# Altium footprint library My_Library.PcbLib: 118 footprints (part 2 of 8)
Each footprint in its own frame and in the unit in brackets; x right, y up, seen from the top. Pads: shape width x height; smd on the part's side, far side on the other; paste and mask are expansions set on the pad; w line width, h text height; cw(c..) or ccw(c..) is an arc to the next point about the centre after c.
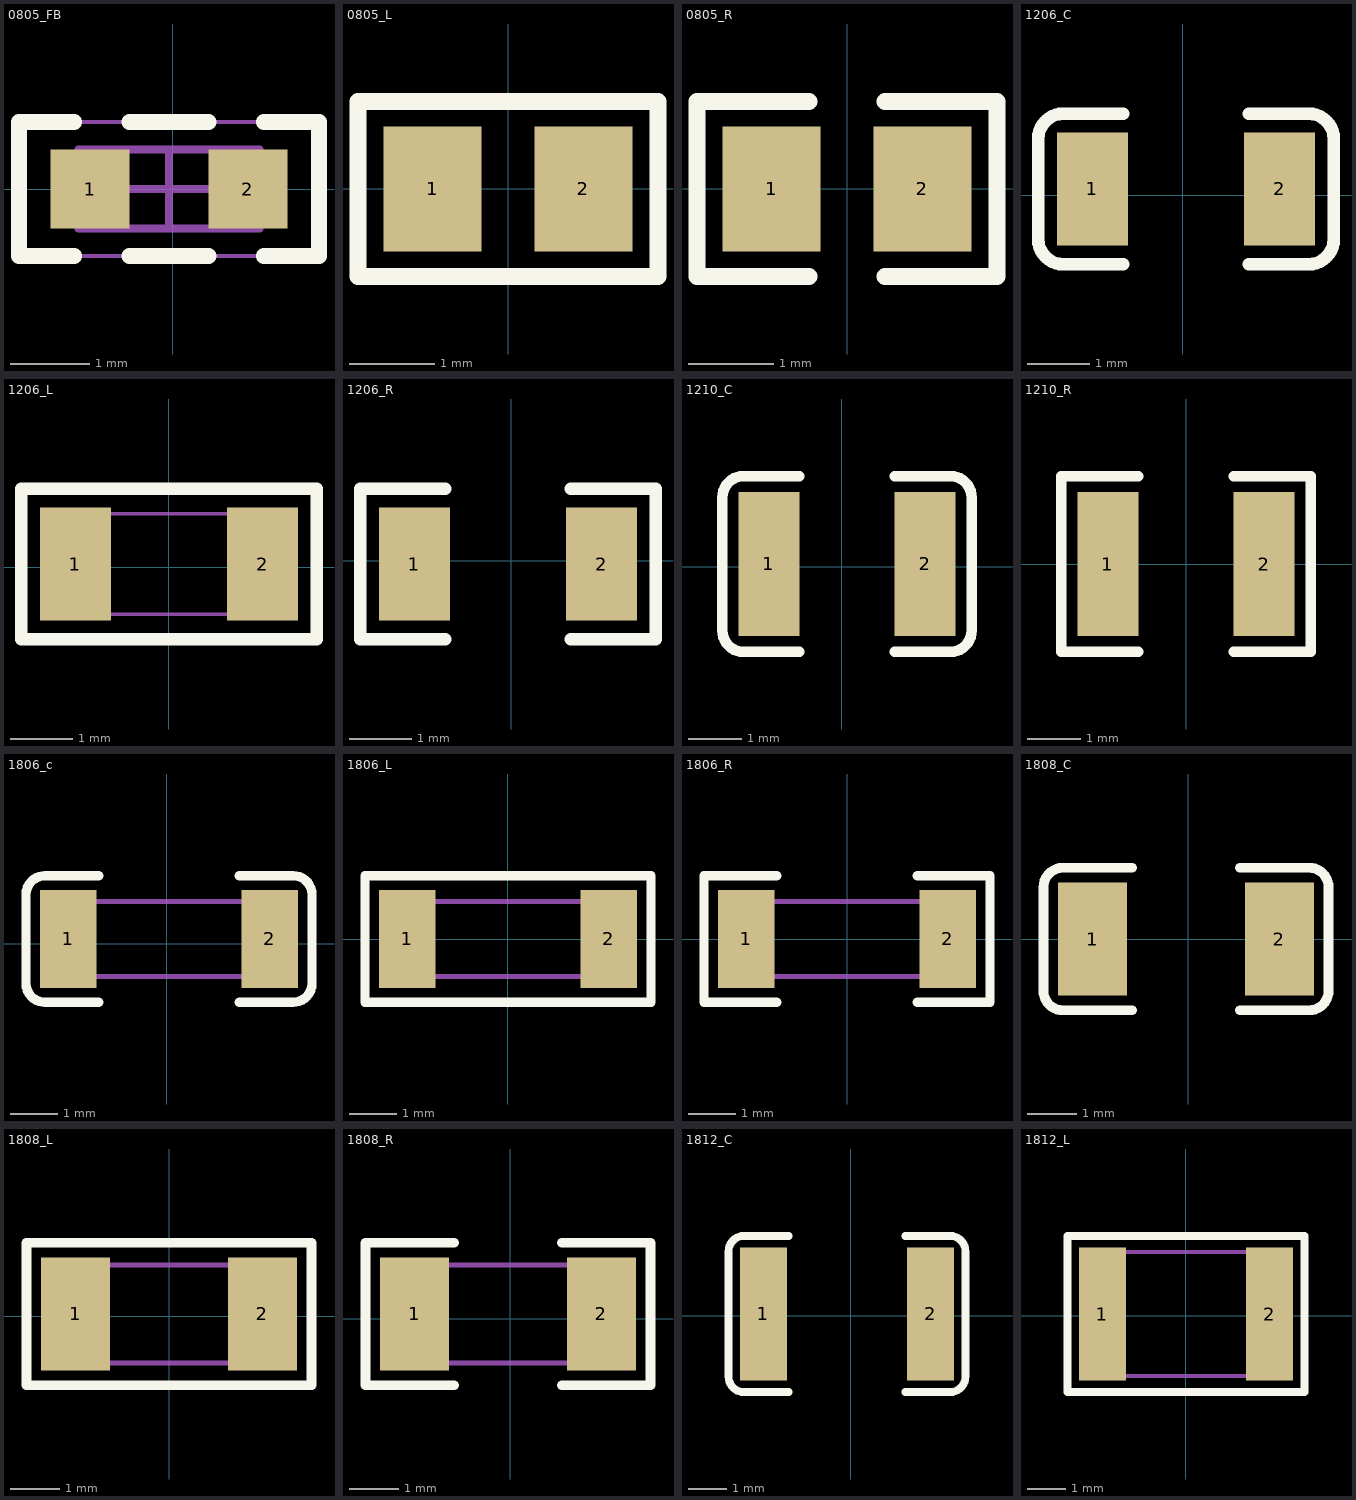
[diagram p1: the footprints below, top view; thin cyan lines are the x and y axes]

## 0805_FB [mm]
pads (2):
  rect 1x1 smd: 1(-1.05,0) 2(0.95,0)
Top Overlay:
  lines w0.2: -1.25,-0.85 -1.95,-0.85 -1.95,0.85 -1.25,0.85 ; -0.55,-0.85 0.45,-0.85 ; -0.55,0.85 0.45,0.85 ; 1.15,-0.85 1.85,-0.85 1.85,0.85 1.15,0.85
Mechanical 13:
  lines w0.1: -1.2,-0.5 -1.2,0.5 1.1,0.5 1.1,-0.5 -1.2,-0.5
Mechanical 15:
  lines w0.05: -1.9,-0.85 -1.9,0.85 1.8,0.85 1.8,-0.85 -1.9,-0.85
  lines w0.1: -0.55,0 0.45,0 ; -0.05,-0.5 -0.05,0.5
3D body: height 1.21, standoff 0, extent 0.694,-0.5 1.1,0.499
3D body: height 1.21, standoff 0, extent -1.199,-0.499 -0.793,0.499
3D body: height 1.2, standoff 0, extent -1,-0.5 0.9,0.5

## 0805_L [mm]
pads (2):
  rect 1.16x1.47 smd: 1(-0.89,0) 2(0.89,0)
Top Overlay:
  lines w0.2: -1.77,-1.035 1.77,-1.035 1.77,1.035 -1.77,1.035 -1.77,-1.035
3D body "L0805.STEP": height 0.6, standoff -0.02, extent -0.998,-0.637 1.005,0.638

## 0805_R [mm]
pads (2):
  rect 1.16x1.47 smd: 1(-0.89,0) 2(0.89,0)
Top Overlay:
  lines w0.2: -0.45,-1.035 -1.77,-1.035 -1.77,1.035 -0.45,1.035 ; 0.45,-1.035 1.77,-1.035 1.77,1.035 0.45,1.035
3D body "User Library-R_0805.STEP": height 0.49, standoff -0.01, extent -0.997,-0.625 1.003,0.625

## 1206_C [mm]
pads (2):
  rect 1.13x1.8 smd: 1(-1.44,0.1) 2(1.54,0.1)
Top Overlay:
  lines w0.2: -0.95,-1.1 -1.905,-1.1 cw(c-1.905,-0.7) -2.305,-0.7 -2.305,0.9 cw(c-1.905,0.9) -1.905,1.3 -0.95,1.3 ; 1.05,-1.1 2.005,-1.1 ccw(c2.005,-0.7) 2.405,-0.7 2.405,0.9 ccw(c2.005,0.9) 2.005,1.3 1.05,1.3
3D body "C1206.STEP": height 1, standoff 0, extent -1.552,-0.713 1.648,0.887

## 1206_L [mm]
pads (2):
  rect 1.13x1.8 smd: 1(-1.49,0.05) 2(1.49,0.05)
Top Overlay:
  lines w0.2: -2.355,-1.15 2.355,-1.15 2.355,1.25 -2.355,1.25 -2.355,-1.15
Mechanical 13:
  lines w0.05: -1.6,-0.75 1.6,-0.75 1.6,0.85 -1.6,0.85 -1.6,-0.75

## 1206_R [mm]
pads (2):
  rect 1.13x1.8 smd: 1(-1.54,-0.05) 2(1.44,-0.05)
Top Overlay:
  lines w0.2: -1.05,-1.25 -2.405,-1.25 -2.405,1.15 -1.05,1.15 ; 0.95,-1.25 2.305,-1.25 2.305,1.15 0.95,1.15
3D body "User Library-RES_3216-1206.STEP": height 0.85, standoff 0, extent -1.75,-0.914 1.6,0.816

## 1210_C [mm]
pads (2):
  rect 1.16x2.72 smd: 1(-1.375,0.05) 2(1.575,0.05)
Top Overlay:
  lines w0.2: -0.8,-1.61 -1.855,-1.61 cw(c-1.855,-1.21) -2.255,-1.21 -2.255,1.31 cw(c-1.855,1.31) -1.855,1.71 -0.8,1.71 ; 1,-1.61 2.055,-1.61 ccw(c2.055,-1.21) 2.455,-1.21 2.455,1.31 ccw(c2.055,1.31) 2.055,1.71 1,1.71
3D body "User Library-cap_1210_lowprofile.step": height 1.3, standoff 0, extent -1.5,-1.2 1.7,1.3

## 1210_R [mm]
pads (2):
  rect 1.16x2.72 smd: 1(-1.475,0) 2(1.475,0)
Top Overlay:
  lines w0.2: -0.9,-1.66 -2.355,-1.66 -2.355,1.66 -0.9,1.66 ; 0.9,-1.66 2.355,-1.66 2.355,1.66 0.9,1.66
3D body "User Library-R_1210.STEP": height 0.6, standoff 0, extent -1.6,-1.25 1.6,1.25

## 1806_c [mm]
pads (2):
  rect 1.2x2.1 smd: 1(-2.1,0.1) 2(2.2,0.1)
Top Overlay:
  lines w0.2: -1.45,-1.25 -2.6,-1.25 cw(c-2.6,-0.85) -3,-0.85 -3,1.05 cw(c-2.6,1.05) -2.6,1.45 -1.45,1.45 ; 1.55,-1.25 2.7,-1.25 ccw(c2.7,-0.85) 3.1,-0.85 3.1,1.05 ccw(c2.7,1.05) 2.7,1.45 1.55,1.45
Mechanical 13:
  lines w0.1: -2.2,-0.7 -2.2,0.9 2.3,0.9 2.3,-0.7 -2.2,-0.7

## 1806_L [mm]
pads (2):
  rect 1.2x2.1 smd: 1(-2.15,0) 2(2.15,0)
Top Overlay:
  lines w0.2: -3.05,-1.35 3.05,-1.35 3.05,1.35 -3.05,1.35 -3.05,-1.35
Mechanical 13:
  lines w0.1: -2.25,-0.8 2.25,-0.8 2.25,0.8 -2.25,0.8 -2.25,-0.8

## 1806_R [mm]
pads (2):
  rect 1.2x2.1 smd: 1(-2.15,0) 2(2.15,0)
Top Overlay:
  lines w0.2: -1.5,-1.35 -3.05,-1.35 -3.05,1.35 -1.5,1.35 ; 1.5,-1.35 3.05,-1.35 3.05,1.35 1.5,1.35
Mechanical 13:
  lines w0.1: -2.25,-0.8 2.25,-0.8 2.25,0.8 -2.25,0.8 -2.25,-0.8

## 1808_C [mm]
pads (2):
  rect 1.4x2.3 smd: 1(-1.95,0) 2(1.85,0)
Top Overlay:
  lines w0.2: -1.15,-1.45 -2.55,-1.45 cw(c-2.55,-1.05) -2.95,-1.05 -2.95,1.05 cw(c-2.55,1.05) -2.55,1.45 -1.15,1.45 ; 1.05,-1.45 2.45,-1.45 ccw(c2.45,-1.05) 2.85,-1.05 2.85,1.05 ccw(c2.45,1.05) 2.45,1.45 1.05,1.45
3D body "C1808.STEP": height 0.88, standoff -0.02, extent -2.3,-1 2.2,1

## 1808_L [mm]
pads (2):
  rect 1.4x2.3 smd: 1(-1.9,0.05) 2(1.9,0.05)
Top Overlay:
  lines w0.2: -2.9,-1.4 2.9,-1.4 2.9,1.5 -2.9,1.5 -2.9,-1.4
Mechanical 13:
  lines w0.1: -2.25,-0.95 2.25,-0.95 2.25,1.05 -2.25,1.05 -2.25,-0.95

## 1808_R [mm]
pads (2):
  rect 1.4x2.3 smd: 1(-1.95,0.1) 2(1.85,0.1)
Top Overlay:
  lines w0.2: -1.15,-1.35 -2.95,-1.35 -2.95,1.55 -1.15,1.55 ; 1.05,-1.35 2.85,-1.35 2.85,1.55 1.05,1.55
Mechanical 13:
  lines w0.1: -2.3,-0.9 2.2,-0.9 2.2,1.1 -2.3,1.1 -2.3,-0.9

## 1812_C [mm]
pads (2):
  rect 1.2x3.42 smd: 1(-2.25,0.05) 2(2.05,0.05)
Top Overlay:
  lines w0.2: -1.6,-1.96 -2.75,-1.96 cw(c-2.75,-1.56) -3.15,-1.56 -3.15,1.66 cw(c-2.75,1.66) -2.75,2.06 -1.6,2.06 ; 1.4,-1.96 2.55,-1.96 ccw(c2.55,-1.56) 2.95,-1.56 2.95,1.66 ccw(c2.55,1.66) 2.55,2.06 1.4,2.06
3D body "SW3dPS-1812 SMD Capacitor.STEP": height 1.6, standoff 0, extent -2.35,-1.55 2.15,1.65

## 1812_L [mm]
pads (2):
  rect 1.2x3.42 smd: 1(-2.15,0.05) 2(2.15,0.05)
Top Overlay:
  lines w0.2: -3.05,-1.96 -3.05,2.06 3.05,2.06 3.05,-1.96 -3.05,-1.96
Mechanical 13:
  lines w0.1: -2.25,-1.55 -2.25,1.65 2.25,1.65 2.25,-1.55 -2.25,-1.55